# Altium integrated library Capacitor - Aluminium TH.IntLib: 4591 symbols (part 37 of 68)
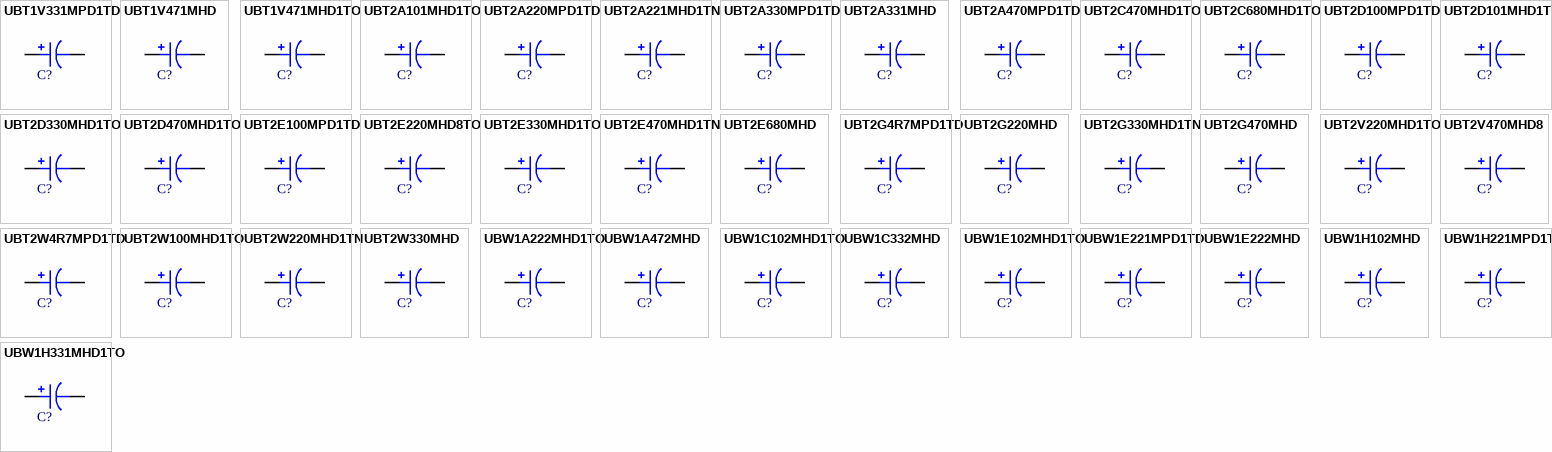
[diagram p150: symbols UBT1V331MPD1TD to UBW1H331MHD1TO]

## UBT2E680MHD
designator C?, comment 68uF  (value not drawn)
CAP ALUM 68UF 20% 250V RADIAL; Part Number: UBT2E680MHD; Manufacturer: Nichicon; TemperatureRange: -40C ~ 125C; Type: Polar; Ripple Current: 292mA @ 120Hz; Value: 68uF; PartId: 27225; Supplier 1: Digi-Key; Supplier Part Number 1: 493-13037-ND; ComponentLink1Description: Datasheet; ComponentLink1URL: http://nichicon-us.com/english/products/pdfs/e-ubt.pdf; ComponentLink2Description: Digi-Key Listing; ComponentLink2URL: https://www.digikey.com/product-detail/en/nichicon/UBT2E680MHD/493-13037-ND/2597460; Tolerance: 20%; Voltage: 250V; Price: 2.36; Device Package: Radial, Can, 16mm
footprint CAP AL TH D16 L7.5 H33.5
pins: 1, 2

## UBT2G4R7MPD1TD
designator C?, comment 4.7uF  (value not drawn)
CAP ALUM 4.7UF 20% 400V RADIAL; Part Number: UBT2G4R7MPD1TD; Manufacturer: Nichicon; TemperatureRange: -25C ~ 125C; Type: Polar; Ripple Current: 53mA @ 120Hz; Value: 4.7uF; PartId: 25814; Supplier 1: Digi-Key; Supplier Part Number 1: 493-4521-3-ND; ComponentLink1Description: Datasheet; ComponentLink1URL: http://nichicon-us.com/english/products/pdfs/e-ubt.pdf; ComponentLink2Description: Digi-Key Listing; ComponentLink2URL: https://www.digikey.com/product-detail/en/nichicon/UBT2G4R7MPD1TD/493-4521-3-ND/2649109; Tolerance: 20%; Voltage: 400V; Price: 0.3328; Device Package: Radial, Can, 10mm
footprint CAP AL TH D10 L5 H22
pins: 1, 2

## UBT2G220MHD
designator C?, comment 22uF  (value not drawn)
CAP ALUM 22UF 20% 400V RADIAL; Part Number: UBT2G220MHD; Manufacturer: Nichicon; TemperatureRange: -25C ~ 125C; Type: Polar; Ripple Current: 142mA @ 120Hz; Value: 22uF; PartId: 24383; Supplier 1: Digi-Key; Supplier Part Number 1: 493-13038-ND; ComponentLink1Description: Datasheet; ComponentLink1URL: http://nichicon-us.com/english/products/pdfs/e-ubt.pdf; ComponentLink2Description: Digi-Key Listing; ComponentLink2URL: https://www.digikey.com/product-detail/en/nichicon/UBT2G220MHD/493-13038-ND/2597462; Tolerance: 20%; Voltage: 400V; Price: 1.7; Device Package: Radial, Can, 12.5mm
footprint CAP AL TH D12.5 L5 H35.5
pins: 1, 2

## UBT2G330MHD1TN
designator C?, comment 33uF  (value not drawn)
CAP ALUM 33UF 20% 400V RADIAL; Part Number: UBT2G330MHD1TN; Manufacturer: Nichicon; TemperatureRange: -25C ~ 125C; Type: Polar; Ripple Current: 189mA @ 120Hz; Value: 33uF; PartId: 26865; Supplier 1: Digi-Key; Supplier Part Number 1: 493-13132-3-ND; ComponentLink1Description: Datasheet; ComponentLink1URL: http://nichicon-us.com/english/products/pdfs/e-ubt.pdf; ComponentLink2Description: Digi-Key Listing; ComponentLink2URL: https://www.digikey.com/product-detail/en/nichicon/UBT2G330MHD1TN/493-13132-3-ND/4332763; Tolerance: 20%; Voltage: 400V; Price: 1.2674; Device Package: Radial, Can, 16mm
footprint CAP AL TH D16 L7.5 H27
pins: 1, 2

## UBT2G470MHD
designator C?, comment 47uF  (value not drawn)
CAP ALUM 47UF 20% 400V RADIAL; Part Number: UBT2G470MHD; Manufacturer: Nichicon; TemperatureRange: -25C ~ 125C; Type: Polar; Ripple Current: 243mA @ 120Hz; Value: 47uF; PartId: 27246; Supplier 1: Digi-Key; Supplier Part Number 1: 493-4482-ND; ComponentLink1Description: Datasheet; ComponentLink1URL: http://nichicon-us.com/english/products/pdfs/e-ubt.pdf; ComponentLink2Description: Digi-Key Listing; ComponentLink2URL: https://www.digikey.com/product-detail/en/nichicon/UBT2G470MHD/493-4482-ND/2597464; Tolerance: 20%; Voltage: 400V; Price: 2.63; Device Package: Radial, Can, 16mm
footprint CAP AL TH D16 L7.5 H33.5
pins: 1, 2

## UBT2V220MHD1TO
designator C?, comment 22uF  (value not drawn)
CAP ALUM 22UF 20% 350V RADIAL; Part Number: UBT2V220MHD1TO; Manufacturer: Nichicon; TemperatureRange: -25C ~ 125C; Type: Polar; Ripple Current: 139mA @ 120Hz; Value: 22uF; PartId: 23848; Supplier 1: Digi-Key; Supplier Part Number 1: 493-4520-3-ND; ComponentLink1Description: Datasheet; ComponentLink1URL: http://nichicon-us.com/english/products/pdfs/e-ubt.pdf; ComponentLink2Description: Digi-Key Listing; ComponentLink2URL: https://www.digikey.com/product-detail/en/nichicon/UBT2V220MHD1TO/493-4520-3-ND/2649108; Tolerance: 20%; Voltage: 350V; Price: 0.599; Device Package: Radial, Can, 12.5mm
footprint CAP AL TH D12.5 L5 H27
pins: 1, 2

## UBT2V470MHD8
designator C?, comment 47uF  (value not drawn)
CAP ALUM 47UF 20% 350V RADIAL; Part Number: UBT2V470MHD8; Manufacturer: Nichicon; TemperatureRange: -25C ~ 125C; Type: Polar; Ripple Current: 243mA @ 120Hz; Value: 47uF; PartId: 27247; Supplier 1: Digi-Key; Supplier Part Number 1: 493-13039-ND; ComponentLink1Description: Datasheet; ComponentLink1URL: http://nichicon-us.com/english/products/pdfs/e-ubt.pdf; ComponentLink2Description: Digi-Key Listing; ComponentLink2URL: https://www.digikey.com/product-detail/en/nichicon/UBT2V470MHD8/493-13039-ND/2597469; Tolerance: 20%; Voltage: 350V; Price: 2.63; Device Package: Radial, Can, 16mm
footprint CAP AL TH D16 L7.5 H33.5
pins: 1, 2

## UBT2W4R7MPD1TD
designator C?, comment 4.7uF  (value not drawn)
CAP ALUM 4.7UF 20% 450V RADIAL; Part Number: UBT2W4R7MPD1TD; Manufacturer: Nichicon; TemperatureRange: -25C ~ 125C; Type: Polar; Ripple Current: 58mA @ 120Hz; Value: 4.7uF; PartId: 26038; Supplier 1: Digi-Key; Supplier Part Number 1: 493-4522-3-ND; ComponentLink1Description: Datasheet; ComponentLink1URL: http://nichicon-us.com/english/products/pdfs/e-ubt.pdf; ComponentLink2Description: Digi-Key Listing; ComponentLink2URL: https://www.digikey.com/product-detail/en/nichicon/UBT2W4R7MPD1TD/493-4522-3-ND/2649110; Tolerance: 20%; Voltage: 450V; Price: 0.4889; Device Package: Radial, Can, 10mm
footprint CAP AL TH D10 L5 H30
pins: 1, 2

## UBT2W100MHD1TO
designator C?, comment 10uF  (value not drawn)
CAP ALUM 10UF 20% 450V RADIAL; Part Number: UBT2W100MHD1TO; Manufacturer: Nichicon; TemperatureRange: -25C ~ 125C; Type: Polar; Ripple Current: 86mA @ 120Hz; Value: 10uF; PartId: 23210; Supplier 1: Digi-Key; Supplier Part Number 1: 493-4523-3-ND; ComponentLink1Description: Datasheet; ComponentLink1URL: http://nichicon-us.com/english/products/pdfs/e-ubt.pdf; ComponentLink2Description: Digi-Key Listing; ComponentLink2URL: https://www.digikey.com/product-detail/en/nichicon/UBT2W100MHD1TO/493-4523-3-ND/2649111; Tolerance: 20%; Voltage: 450V; Price: 0.6211; Device Package: Radial, Can, 12.5mm
footprint CAP AL TH D12.5 L5 H22
pins: 1, 2

## UBT2W220MHD1TN
designator C?, comment 22uF  (value not drawn)
CAP ALUM 22UF 20% 450V RADIAL; Part Number: UBT2W220MHD1TN; Manufacturer: Nichicon; TemperatureRange: -25C ~ 125C; Type: Polar; Ripple Current: 154mA @ 120Hz; Value: 22uF; PartId: 26896; Supplier 1: Digi-Key; Supplier Part Number 1: 493-13136-3-ND; ComponentLink1Description: Datasheet; ComponentLink1URL: http://nichicon-us.com/english/products/pdfs/e-ubt.pdf; ComponentLink2Description: Digi-Key Listing; ComponentLink2URL: https://www.digikey.com/product-detail/en/nichicon/UBT2W220MHD1TN/493-13136-3-ND/4332767; Tolerance: 20%; Voltage: 450V; Price: 1.4626; Device Package: Radial, Can, 16mm
footprint CAP AL TH D16 L7.5 H27
pins: 1, 2

## UBT2W330MHD
designator C?, comment 33uF  (value not drawn)
CAP ALUM 33UF 20% 450V RADIAL; Part Number: UBT2W330MHD; Manufacturer: Nichicon; TemperatureRange: -25C ~ 125C; Type: Polar; Ripple Current: 203mA @ 120Hz; Value: 33uF; PartId: 27296; Supplier 1: Digi-Key; Supplier Part Number 1: 493-4483-ND; ComponentLink1Description: Datasheet; ComponentLink1URL: http://nichicon-us.com/english/products/pdfs/e-ubt.pdf; ComponentLink2Description: Digi-Key Listing; ComponentLink2URL: https://www.digikey.com/product-detail/en/nichicon/UBT2W330MHD/493-4483-ND/2597473; Tolerance: 20%; Voltage: 450V; Price: 3.33; Device Package: Radial, Can, 16mm
footprint CAP AL TH D16 L7.5 H33.5
pins: 1, 2

## UBW1A222MHD1TO
designator C?, comment 2200uF  (value not drawn)
CAP ALUM 2200UF 20% 10V RADIAL; Part Number: UBW1A222MHD1TO; Manufacturer: Nichicon; TemperatureRange: -55C ~ 135C; Type: Polar; Ripple Current: 1.75A; Impedance: 33 mOhm; Value: 2200uF; PartId: 24197; Supplier 1: Digi-Key; Supplier Part Number 1: 493-13139-1-ND; ComponentLink1Description: Datasheet; ComponentLink1URL: http://nichicon-us.com/english/products/pdfs/e-ubw.pdf; ComponentLink2Description: Digi-Key Listing; ComponentLink2URL: https://www.digikey.com/product-detail/en/nichicon/UBW1A222MHD1TO/493-13139-1-ND/4333149; Tolerance: 20%; Voltage: 10V; Price: 2.47; Device Package: Radial, Can, 12.5mm
footprint CAP AL TH D12.5 L5 H27
pins: 1, 2

## UBW1A472MHD
designator C?, comment 4700uF  (value not drawn)
CAP ALUM 4700UF 20% 10V RADIAL; Part Number: UBW1A472MHD; Manufacturer: Nichicon; TemperatureRange: -55C ~ 135C; Type: Polar; Ripple Current: 1.816A @ 120Hz; Impedance: 20 mOhm; Value: 4700uF; PartId: 27294; Supplier 1: Digi-Key; Supplier Part Number 1: 493-13040-ND; ComponentLink1Description: Datasheet; ComponentLink1URL: http://nichicon-us.com/english/products/pdfs/e-ubw.pdf; ComponentLink2Description: Digi-Key Listing; ComponentLink2URL: https://www.digikey.com/product-detail/en/nichicon/UBW1A472MHD/493-13040-ND/2597481; Tolerance: 20%; Voltage: 10V; Price: 3.32; Device Package: Radial, Can, 16mm
footprint CAP AL TH D16 L7.5 H33.5
pins: 1, 2

## UBW1C102MHD1TO
designator C?, comment 1000uF  (value not drawn)
CAP ALUM 1000UF 20% 16V RADIAL; Part Number: UBW1C102MHD1TO; Manufacturer: Nichicon; TemperatureRange: -55C ~ 135C; Type: Polar; Ripple Current: 1.49A; Impedance: 42 mOhm; Value: 1000uF; PartId: 23530; Supplier 1: Digi-Key; Supplier Part Number 1: 493-13144-1-ND; ComponentLink1Description: Datasheet; ComponentLink1URL: http://nichicon-us.com/english/products/pdfs/e-ubw.pdf; ComponentLink2Description: Digi-Key Listing; ComponentLink2URL: https://www.digikey.com/product-detail/en/nichicon/UBW1C102MHD1TO/493-13144-1-ND/4333154; Tolerance: 20%; Voltage: 16V; Price: 1.91; Device Package: Radial, Can, 12.5mm
footprint CAP AL TH D12.5 L5 H22
pins: 1, 2

## UBW1C332MHD
designator C?, comment 3300uF  (value not drawn)
CAP ALUM 3300UF 20% 16V RADIAL; Part Number: UBW1C332MHD; Manufacturer: Nichicon; TemperatureRange: -55C ~ 135C; Type: Polar; Ripple Current: 1.816A @ 120Hz; Impedance: 20 mOhm; Value: 3300uF; PartId: 27293; Supplier 1: Digi-Key; Supplier Part Number 1: 493-13041-ND; ComponentLink1Description: Datasheet; ComponentLink1URL: http://nichicon-us.com/english/products/pdfs/e-ubw.pdf; ComponentLink2Description: Digi-Key Listing; ComponentLink2URL: https://www.digikey.com/product-detail/en/nichicon/UBW1C332MHD/493-13041-ND/2597487; Tolerance: 20%; Voltage: 16V; Price: 3.32; Device Package: Radial, Can, 16mm
footprint CAP AL TH D16 L7.5 H33.5
pins: 1, 2

## UBW1E102MHD1TO
designator C?, comment 1000uF  (value not drawn)
CAP ALUM 1000UF 20% 25V RADIAL; Part Number: UBW1E102MHD1TO; Manufacturer: Nichicon; TemperatureRange: -55C ~ 135C; Type: Polar; Ripple Current: 1.75A; Impedance: 33 mOhm; Value: 1000uF; PartId: 24199; Supplier 1: Digi-Key; Supplier Part Number 1: 493-13150-1-ND; ComponentLink1Description: Datasheet; ComponentLink1URL: http://nichicon-us.com/english/products/pdfs/e-ubw.pdf; ComponentLink2Description: Digi-Key Listing; ComponentLink2URL: https://www.digikey.com/product-detail/en/nichicon/UBW1E102MHD1TO/493-13150-1-ND/4333160; Tolerance: 20%; Voltage: 25V; Price: 2.47; Device Package: Radial, Can, 12.5mm
footprint CAP AL TH D12.5 L5 H27
pins: 1, 2

## UBW1E221MPD1TD
designator C?, comment 220uF  (value not drawn)
CAP ALUM 220UF 20% 25V RADIAL; Part Number: UBW1E221MPD1TD; Manufacturer: Nichicon; TemperatureRange: -55C ~ 135C; Type: Polar; Ripple Current: 340mA @ 120Hz; Impedance: 100 mOhm; Value: 220uF; PartId: 24793; Supplier 1: Digi-Key; Supplier Part Number 1: 493-13151-3-ND; ComponentLink1Description: Datasheet; ComponentLink1URL: http://nichicon-us.com/english/products/pdfs/e-ubw.pdf; ComponentLink2Description: Digi-Key Listing; ComponentLink2URL: https://www.digikey.com/product-detail/en/nichicon/UBW1E221MPD1TD/493-13151-3-ND/4332782; Tolerance: 20%; Voltage: 25V; Price: 0.445; Device Package: Radial, Can, 10mm
footprint CAP AL TH D10 L5 H14.5
pins: 1, 2

## UBW1E222MHD
designator C?, comment 2200uF  (value not drawn)
CAP ALUM 2200UF 20% 25V RADIAL; Part Number: UBW1E222MHD; Manufacturer: Nichicon; TemperatureRange: -55C ~ 135C; Type: Polar; Ripple Current: 1.816A @ 120Hz; Impedance: 20 mOhm; Value: 2200uF; PartId: 27289; Supplier 1: Digi-Key; Supplier Part Number 1: 493-13042-ND; ComponentLink1Description: Datasheet; ComponentLink1URL: http://nichicon-us.com/english/products/pdfs/e-ubw.pdf; ComponentLink2Description: Digi-Key Listing; ComponentLink2URL: https://www.digikey.com/product-detail/en/nichicon/UBW1E222MHD/493-13042-ND/2597492; Tolerance: 20%; Voltage: 25V; Price: 3.32; Device Package: Radial, Can, 16mm
footprint CAP AL TH D16 L7.5 H33.5
pins: 1, 2

## UBW1H102MHD
designator C?, comment 1000uF  (value not drawn)
CAP ALUM 1000UF 20% 50V RADIAL; Part Number: UBW1H102MHD; Manufacturer: Nichicon; TemperatureRange: -55C ~ 135C; Type: Polar; Ripple Current: 1.628A @ 120Hz; Impedance: 31 mOhm; Value: 1000uF; PartId: 27291; Supplier 1: Digi-Key; Supplier Part Number 1: 493-13043-ND; ComponentLink1Description: Datasheet; ComponentLink1URL: http://nichicon-us.com/english/products/pdfs/e-ubw.pdf; ComponentLink2Description: Digi-Key Listing; ComponentLink2URL: https://www.digikey.com/product-detail/en/nichicon/UBW1H102MHD/493-13043-ND/2597498; Tolerance: 20%; Voltage: 50V; Price: 3.32; Device Package: Radial, Can, 16mm
footprint CAP AL TH D16 L7.5 H33.5
pins: 1, 2

## UBW1H221MPD1TD
designator C?, comment 220uF  (value not drawn)
CAP ALUM 220UF 20% 50V RADIAL; Part Number: UBW1H221MPD1TD; Manufacturer: Nichicon; TemperatureRange: -55C ~ 135C; Type: Polar; Ripple Current: 465mA @ 120Hz; Impedance: 98 mOhm; Value: 220uF; PartId: 25910; Supplier 1: Digi-Key; Supplier Part Number 1: 493-13158-3-ND; ComponentLink1Description: Datasheet; ComponentLink1URL: http://nichicon-us.com/english/products/pdfs/e-ubw.pdf; ComponentLink2Description: Digi-Key Listing; ComponentLink2URL: https://www.digikey.com/product-detail/en/nichicon/UBW1H221MPD1TD/493-13158-3-ND/4332789; Tolerance: 20%; Voltage: 50V; Price: 0.6983; Device Package: Radial, Can, 10mm
footprint CAP AL TH D10 L5 H22
pins: 1, 2

## UBW1H331MHD1TO
designator C?, comment 330uF  (value not drawn)
CAP ALUM 330UF 20% 50V RADIAL; Part Number: UBW1H331MHD1TO; Manufacturer: Nichicon; TemperatureRange: -55C ~ 135C; Type: Polar; Ripple Current: 1.33A; Impedance: 70 mOhm; Value: 330uF; PartId: 23531; Supplier 1: Digi-Key; Supplier Part Number 1: 493-13161-1-ND; ComponentLink1Description: Datasheet; ComponentLink1URL: http://nichicon-us.com/english/products/pdfs/e-ubw.pdf; ComponentLink2Description: Digi-Key Listing; ComponentLink2URL: https://www.digikey.com/product-detail/en/nichicon/UBW1H331MHD1TO/493-13161-1-ND/4333171; Tolerance: 20%; Voltage: 50V; Price: 1.97; Device Package: Radial, Can, 12.5mm
footprint CAP AL TH D12.5 L5 H22
pins: 1, 2

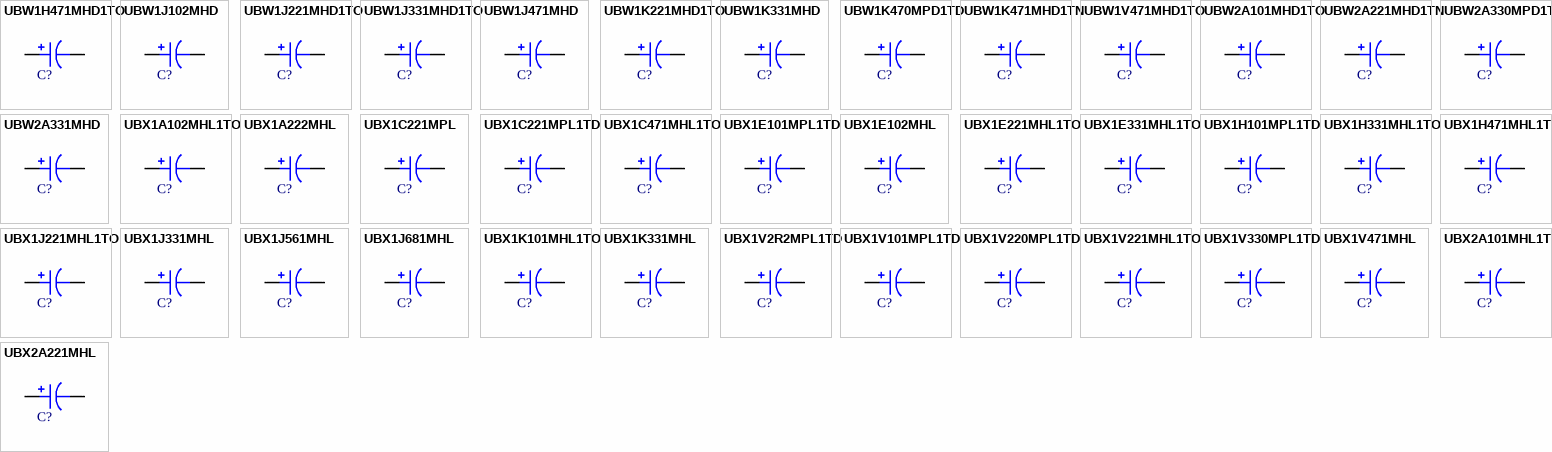
[diagram p60: symbols UBW1H471MHD1TO to UBX2A221MHL]

## UBW1H471MHD1TO
designator C?, comment 470uF  (value not drawn)
CAP ALUM 470UF 20% 50V RADIAL; Part Number: UBW1H471MHD1TO; Manufacturer: Nichicon; TemperatureRange: -55C ~ 135C; Type: Polar; Ripple Current: 825mA @ 120Hz; Impedance: 55 mOhm; Value: 470uF; PartId: 23986; Supplier 1: Digi-Key; Supplier Part Number 1: 493-13164-3-ND; ComponentLink1Description: Datasheet; ComponentLink1URL: http://nichicon-us.com/english/products/pdfs/e-ubw.pdf; ComponentLink2Description: Digi-Key Listing; ComponentLink2URL: https://www.digikey.com/product-detail/en/nichicon/UBW1H471MHD1TO/493-13164-3-ND/4332795; Tolerance: 20%; Voltage: 50V; Price: 1.0363; Device Package: Radial, Can, 12.5mm
footprint CAP AL TH D12.5 L5 H27
pins: 1, 2

## UBW1J102MHD
designator C?, comment 1000uF  (value not drawn)
CAP ALUM 1000UF 20% 63V RADIAL; Part Number: UBW1J102MHD; Manufacturer: Nichicon; TemperatureRange: -55C ~ 135C; Type: Polar; Ripple Current: 1.273A @ 120Hz; Impedance: 55 mOhm; Value: 1000uF; PartId: 27290; Supplier 1: Digi-Key; Supplier Part Number 1: 493-13044-ND; ComponentLink1Description: Datasheet; ComponentLink1URL: http://nichicon-us.com/english/products/pdfs/e-ubw.pdf; ComponentLink2Description: Digi-Key Listing; ComponentLink2URL: https://www.digikey.com/product-detail/en/nichicon/UBW1J102MHD/493-13044-ND/2597506; Tolerance: 20%; Voltage: 63V; Price: 3.32; Device Package: Radial, Can, 16mm
footprint CAP AL TH D16 L7.5 H33.5
pins: 1, 2

## UBW1J221MHD1TO
designator C?, comment 220uF  (value not drawn)
CAP ALUM 220UF 20% 63V RADIAL; Part Number: UBW1J221MHD1TO; Manufacturer: Nichicon; TemperatureRange: -55C ~ 135C; Type: Polar; Ripple Current: 525mA @ 120Hz; Impedance: 160 mOhm; Value: 220uF; PartId: 23300; Supplier 1: Digi-Key; Supplier Part Number 1: 493-13168-3-ND; ComponentLink1Description: Datasheet; ComponentLink1URL: http://nichicon-us.com/english/products/pdfs/e-ubw.pdf; ComponentLink2Description: Digi-Key Listing; ComponentLink2URL: https://www.digikey.com/product-detail/en/nichicon/UBW1J221MHD1TO/493-13168-3-ND/4332799; Tolerance: 20%; Voltage: 63V; Price: 0.8017; Device Package: Radial, Can, 12.5mm
footprint CAP AL TH D12.5 L5 H22
pins: 1, 2

## UBW1J331MHD1TO
designator C?, comment 330uF  (value not drawn)
CAP ALUM 330UF 20% 63V RADIAL; Part Number: UBW1J331MHD1TO; Manufacturer: Nichicon; TemperatureRange: -55C ~ 135C; Type: Polar; Ripple Current: 1.29A; Impedance: 120 mOhm; Value: 330uF; PartId: 24198; Supplier 1: Digi-Key; Supplier Part Number 1: 493-13170-1-ND; ComponentLink1Description: Datasheet; ComponentLink1URL: http://nichicon-us.com/english/products/pdfs/e-ubw.pdf; ComponentLink2Description: Digi-Key Listing; ComponentLink2URL: https://www.digikey.com/product-detail/en/nichicon/UBW1J331MHD1TO/493-13170-1-ND/4333180; Tolerance: 20%; Voltage: 63V; Price: 2.47; Device Package: Radial, Can, 12.5mm
footprint CAP AL TH D12.5 L5 H27
pins: 1, 2

## UBW1J471MHD
designator C?, comment 470uF  (value not drawn)
CAP ALUM 470UF 20% 63V RADIAL; Part Number: UBW1J471MHD; Manufacturer: Nichicon; TemperatureRange: -55C ~ 135C; Type: Polar; Ripple Current: 730mA @ 120Hz; Impedance: 97 mOhm; Value: 470uF; PartId: 24425; Supplier 1: Digi-Key; Supplier Part Number 1: 493-13045-ND; ComponentLink1Description: Datasheet; ComponentLink1URL: http://nichicon-us.com/english/products/pdfs/e-ubw.pdf; ComponentLink2Description: Digi-Key Listing; ComponentLink2URL: https://www.digikey.com/product-detail/en/nichicon/UBW1J471MHD/493-13045-ND/2597512; Tolerance: 20%; Voltage: 63V; Price: 2.39; Device Package: Radial, Can, 12.5mm
footprint CAP AL TH D12.5 L5 H35.5
pins: 1, 2

## UBW1K221MHD1TO
designator C?, comment 220uF  (value not drawn)
CAP ALUM 220UF 20% 80V RADIAL; Part Number: UBW1K221MHD1TO; Manufacturer: Nichicon; TemperatureRange: -55C ~ 135C; Type: Polar; Ripple Current: 620mA @ 120Hz; Impedance: 180 mOhm; Value: 220uF; PartId: 23987; Supplier 1: Digi-Key; Supplier Part Number 1: 493-13174-3-ND; ComponentLink1Description: Datasheet; ComponentLink1URL: http://nichicon-us.com/english/products/pdfs/e-ubw.pdf; ComponentLink2Description: Digi-Key Listing; ComponentLink2URL: https://www.digikey.com/product-detail/en/nichicon/UBW1K221MHD1TO/493-13174-3-ND/4332805; Tolerance: 20%; Voltage: 80V; Price: 1.0363; Device Package: Radial, Can, 12.5mm
footprint CAP AL TH D12.5 L5 H27
pins: 1, 2

## UBW1K331MHD
designator C?, comment 330uF  (value not drawn)
CAP ALUM 330UF 20% 80V RADIAL; Part Number: UBW1K331MHD; Manufacturer: Nichicon; TemperatureRange: -55C ~ 135C; Type: Polar; Ripple Current: 695mA @ 120Hz; Impedance: 160 mOhm; Value: 330uF; PartId: 24424; Supplier 1: Digi-Key; Supplier Part Number 1: 493-13046-ND; ComponentLink1Description: Datasheet; ComponentLink1URL: http://nichicon-us.com/english/products/pdfs/e-ubw.pdf; ComponentLink2Description: Digi-Key Listing; ComponentLink2URL: https://www.digikey.com/product-detail/en/nichicon/UBW1K331MHD/493-13046-ND/2597517; Tolerance: 20%; Voltage: 80V; Price: 2.39; Device Package: Radial, Can, 12.5mm
footprint CAP AL TH D12.5 L5 H35.5
pins: 1, 2

## UBW1K470MPD1TD
designator C?, comment 47uF  (value not drawn)
CAP ALUM 47UF 20% 80V RADIAL; Part Number: UBW1K470MPD1TD; Manufacturer: Nichicon; TemperatureRange: -55C ~ 135C; Type: Polar; Ripple Current: 240mA  @ 120Hz; Impedance: 800 mOhm; Value: 47uF; PartId: 24774; Supplier 1: Digi-Key; Supplier Part Number 1: 493-13176-3-ND; ComponentLink1Description: Datasheet; ComponentLink1URL: http://nichicon-us.com/english/products/pdfs/e-ubw.pdf; ComponentLink2Description: Digi-Key Listing; ComponentLink2URL: https://www.digikey.com/product-detail/en/nichicon/UBW1K470MPD1TD/493-13176-3-ND/4332807; Tolerance: 20%; Voltage: 80V; Price: 0.432; Device Package: Radial, Can, 10mm
footprint CAP AL TH D10 L5 H14.5
pins: 1, 2

## UBW1K471MHD1TN
designator C?, comment 470uF  (value not drawn)
CAP ALUM 470UF 20% 80V RADIAL; Part Number: UBW1K471MHD1TN; Manufacturer: Nichicon; TemperatureRange: -55C ~ 135C; Type: Polar; Ripple Current: 750mA @ 120Hz; Impedance: 110 mOhm; Value: 470uF; PartId: 26911; Supplier 1: Digi-Key; Supplier Part Number 1: 493-13177-3-ND; ComponentLink1Description: Datasheet; ComponentLink1URL: http://nichicon-us.com/english/products/pdfs/e-ubw.pdf; ComponentLink2Description: Digi-Key Listing; ComponentLink2URL: https://www.digikey.com/product-detail/en/nichicon/UBW1K471MHD1TN/493-13177-3-ND/4332808; Tolerance: 20%; Voltage: 80V; Price: 1.6317; Device Package: Radial, Can, 16mm
footprint CAP AL TH D16 L7.5 H27
pins: 1, 2

## UBW1V471MHD1TO
designator C?, comment 470uF  (value not drawn)
CAP ALUM 470UF 20% 35V RADIAL; Part Number: UBW1V471MHD1TO; Manufacturer: Nichicon; TemperatureRange: -55C ~ 135C; Type: Polar; Ripple Current: 665mA @ 120Hz; Impedance: 58 mOhm; Value: 470uF; PartId: 23301; Supplier 1: Digi-Key; Supplier Part Number 1: 493-13182-3-ND; ComponentLink1Description: Datasheet; ComponentLink1URL: http://nichicon-us.com/english/products/pdfs/e-ubw.pdf; ComponentLink2Description: Digi-Key Listing; ComponentLink2URL: https://www.digikey.com/product-detail/en/nichicon/UBW1V471MHD1TO/493-13182-3-ND/4332813; Tolerance: 20%; Voltage: 35V; Price: 0.8017; Device Package: Radial, Can, 12.5mm
footprint CAP AL TH D12.5 L5 H22
pins: 1, 2

## UBW2A101MHD1TO
designator C?, comment 100uF  (value not drawn)
CAP ALUM 100UF 20% 100V RADIAL; Part Number: UBW2A101MHD1TO; Manufacturer: Nichicon; TemperatureRange: -55C ~ 135C; Type: Polar; Ripple Current: 495mA @ 120Hz; Impedance: 250 mOhm; Value: 100uF; PartId: 23302; Supplier 1: Digi-Key; Supplier Part Number 1: 493-13184-3-ND; ComponentLink1Description: Datasheet; ComponentLink1URL: http://nichicon-us.com/english/products/pdfs/e-ubw.pdf; ComponentLink2Description: Digi-Key Listing; ComponentLink2URL: https://www.digikey.com/product-detail/en/nichicon/UBW2A101MHD1TO/493-13184-3-ND/4332815; Tolerance: 20%; Voltage: 100V; Price: 0.8017; Device Package: Radial, Can, 12.5mm
footprint CAP AL TH D12.5 L5 H22
pins: 1, 2

## UBW2A221MHD1TN
designator C?, comment 220uF  (value not drawn)
CAP ALUM 220UF 20% 100V RADIAL; Part Number: UBW2A221MHD1TN; Manufacturer: Nichicon; TemperatureRange: -55C ~ 135C; Type: Polar; Ripple Current: 750mA @ 120Hz; Impedance: 110 mOhm; Value: 220uF; PartId: 26912; Supplier 1: Digi-Key; Supplier Part Number 1: 493-13186-3-ND; ComponentLink1Description: Datasheet; ComponentLink1URL: http://nichicon-us.com/english/products/pdfs/e-ubw.pdf; ComponentLink2Description: Digi-Key Listing; ComponentLink2URL: https://www.digikey.com/product-detail/en/nichicon/UBW2A221MHD1TN/493-13186-3-ND/4332817; Tolerance: 20%; Voltage: 100V; Price: 1.6317; Device Package: Radial, Can, 16mm
footprint CAP AL TH D16 L7.5 H27
pins: 1, 2

## UBW2A330MPD1TD
designator C?, comment 33uF  (value not drawn)
CAP ALUM 33UF 20% 100V RADIAL; Part Number: UBW2A330MPD1TD; Manufacturer: Nichicon; TemperatureRange: -55C ~ 135C; Type: Polar; Ripple Current: 240mA  @ 120Hz; Impedance: 800 mOhm; Value: 33uF; PartId: 24946; Supplier 1: Digi-Key; Supplier Part Number 1: 493-13187-3-ND; ComponentLink1Description: Datasheet; ComponentLink1URL: http://nichicon-us.com/english/products/pdfs/e-ubw.pdf; ComponentLink2Description: Digi-Key Listing; ComponentLink2URL: https://www.digikey.com/product-detail/en/nichicon/UBW2A330MPD1TD/493-13187-3-ND/4332818; Tolerance: 20%; Voltage: 100V; Price: 0.512; Device Package: Radial, Can, 10mm
footprint CAP AL TH D10 L5 H14.5
pins: 1, 2

## UBW2A331MHD
designator C?, comment 330uF  (value not drawn)
CAP ALUM 330UF 20% 100V RADIAL; Part Number: UBW2A331MHD; Manufacturer: Nichicon; TemperatureRange: -55C ~ 135C; Type: Polar; Ripple Current: 895mA @ 120Hz; Impedance: 79 mOhm; Value: 330uF; PartId: 27292; Supplier 1: Digi-Key; Supplier Part Number 1: 493-13087-ND; ComponentLink1Description: Datasheet; ComponentLink1URL: http://nichicon-us.com/english/products/pdfs/e-ubw.pdf; ComponentLink2Description: Digi-Key Listing; ComponentLink2URL: https://www.digikey.com/product-detail/en/nichicon/UBW2A331MHD/493-13087-ND/4332718; Tolerance: 20%; Voltage: 100V; Price: 3.32; Device Package: Radial, Can, 16mm
footprint CAP AL TH D16 L7.5 H33.5
pins: 1, 2

## UBX1A102MHL1TO
designator C?, comment 1000uF  (value not drawn)
CAP ALUM 1000UF 20% 10V RADIAL; Part Number: UBX1A102MHL1TO; Manufacturer: Nichicon; TemperatureRange: -55C ~ 150C; Type: Polar; Ripple Current: 600mA; Value: 1000uF; PartId: 23753; Supplier 1: Digi-Key; Supplier Part Number 1: 493-13190-1-ND; ComponentLink1Description: Datasheet; ComponentLink1URL: http://nichicon-us.com/english/products/pdfs/e-ubx.pdf; ComponentLink2Description: Digi-Key Listing; ComponentLink2URL: https://www.digikey.com/product-detail/en/nichicon/UBX1A102MHL1TO/493-13190-1-ND/4333200; Tolerance: 20%; Voltage: 10V; Price: 1.73; Device Package: Radial, Can, 12.5mm
footprint CAP AL TH D12.5 L5 H26.5
pins: 1, 2

## UBX1A222MHL
designator C?, comment 2200uF  (value not drawn)
CAP ALUM 2200UF 20% 10V RADIAL; Part Number: UBX1A222MHL; Manufacturer: Nichicon; TemperatureRange: -55C ~ 150C; Type: Polar; Ripple Current: 670mA @ 120Hz; Value: 2200uF; PartId: 27281; Supplier 1: Digi-Key; Supplier Part Number 1: 493-13047-ND; ComponentLink1Description: Datasheet; ComponentLink1URL: http://nichicon-us.com/english/products/pdfs/e-ubx.pdf; ComponentLink2Description: Digi-Key Listing; ComponentLink2URL: https://www.digikey.com/product-detail/en/nichicon/UBX1A222MHL/493-13047-ND/2597530; Tolerance: 20%; Voltage: 10V; Price: 3.2; Device Package: Radial, Can, 16mm
footprint CAP AL TH D16 L7.5 H33.5
pins: 1, 2

## UBX1C221MPL
designator C?, comment 220uF  (value not drawn)
CAP ALUM 220UF 20% 16V RADIAL; Part Number: UBX1C221MPL; Manufacturer: Nichicon; TemperatureRange: -55C ~ 150C; Type: Polar; Ripple Current: 150mA @ 120Hz; Value: 220uF; PartId: 25428; Supplier 1: Digi-Key; Supplier Part Number 1: 493-14362-ND; ComponentLink1Description: Datasheet; ComponentLink1URL: http://nichicon-us.com/english/products/pdfs/e-ubx.pdf; ComponentLink2Description: Digi-Key Listing; ComponentLink2URL: https://www.digikey.com/product-detail/en/nichicon/UBX1C221MPL/493-14362-ND/2597536; Tolerance: 20%; Voltage: 16V; Price: 1.19; Device Package: Radial, Can, 10mm
footprint CAP AL TH D10 L5 H17.5
pins: 1, 2

## UBX1C221MPL1TD
designator C?, comment 220uF  (value not drawn)
CAP ALUM 220UF 20% 16V RADIAL; Part Number: UBX1C221MPL1TD; Manufacturer: Nichicon; TemperatureRange: -55C ~ 150C; Type: Polar; Ripple Current: 150mA @ 120Hz; Value: 220uF; PartId: 25158; Supplier 1: Digi-Key; Supplier Part Number 1: 493-13194-3-ND; ComponentLink1Description: Datasheet; ComponentLink1URL: http://nichicon-us.com/english/products/pdfs/e-ubx.pdf; ComponentLink2Description: Digi-Key Listing; ComponentLink2URL: https://www.digikey.com/product-detail/en/nichicon/UBX1C221MPL1TD/493-13194-3-ND/4332825; Tolerance: 20%; Voltage: 16V; Price: 0.4323; Device Package: Radial, Can, 10mm
footprint CAP AL TH D10 L5 H17.5
pins: 1, 2

## UBX1C471MHL1TO
designator C?, comment 470uF  (value not drawn)
CAP ALUM 470UF 20% 16V RADIAL; Part Number: UBX1C471MHL1TO; Manufacturer: Nichicon; TemperatureRange: -55C ~ 150C; Type: Polar; Ripple Current: 600mA; Value: 470uF; PartId: 23074; Supplier 1: Digi-Key; Supplier Part Number 1: 493-13196-1-ND; ComponentLink1Description: Datasheet; ComponentLink1URL: http://nichicon-us.com/english/products/pdfs/e-ubx.pdf; ComponentLink2Description: Digi-Key Listing; ComponentLink2URL: https://www.digikey.com/product-detail/en/nichicon/UBX1C471MHL1TO/493-13196-1-ND/4333206; Tolerance: 20%; Voltage: 16V; Price: 0; Device Package: Radial, Can, 12.5mm
footprint CAP AL TH D12.5 L5 H21.5
pins: 1, 2

## UBX1E101MPL1TD
designator C?, comment 100uF  (value not drawn)
CAP ALUM 100UF 20% 25V RADIAL; Part Number: UBX1E101MPL1TD; Manufacturer: Nichicon; TemperatureRange: -55C ~ 150C; Type: Polar; Ripple Current: 125mA @ 120Hz; Value: 100uF; PartId: 24754; Supplier 1: Digi-Key; Supplier Part Number 1: 493-13197-3-ND; ComponentLink1Description: Datasheet; ComponentLink1URL: http://nichicon-us.com/english/products/pdfs/e-ubx.pdf; ComponentLink2Description: Digi-Key Listing; ComponentLink2URL: https://www.digikey.com/product-detail/en/nichicon/UBX1E101MPL1TD/493-13197-3-ND/4332828; Tolerance: 20%; Voltage: 25V; Price: 0.4244; Device Package: Radial, Can, 10mm
footprint CAP AL TH D10 L5 H14.5
pins: 1, 2

## UBX1E102MHL
designator C?, comment 1000uF  (value not drawn)
CAP ALUM 1000UF 20% 25V RADIAL; Part Number: UBX1E102MHL; Manufacturer: Nichicon; TemperatureRange: -55C ~ 150C; Type: Polar; Ripple Current: 670mA @ 120Hz; Value: 1000uF; PartId: 27286; Supplier 1: Digi-Key; Supplier Part Number 1: 493-13052-ND; ComponentLink1Description: Datasheet; ComponentLink1URL: http://nichicon-us.com/english/products/pdfs/e-ubx.pdf; ComponentLink2Description: Digi-Key Listing; ComponentLink2URL: https://www.digikey.com/product-detail/en/nichicon/UBX1E102MHL/493-13052-ND/2597542; Tolerance: 20%; Voltage: 25V; Price: 3.23; Device Package: Radial, Can, 16mm
footprint CAP AL TH D16 L7.5 H33.5
pins: 1, 2

## UBX1E221MHL1TO
designator C?, comment 220uF  (value not drawn)
CAP ALUM 220UF 20% 25V RADIAL; Part Number: UBX1E221MHL1TO; Manufacturer: Nichicon; TemperatureRange: -55C ~ 150C; Type: Polar; Ripple Current: 500mA; Value: 220uF; PartId: 23069; Supplier 1: Digi-Key; Supplier Part Number 1: 493-13198-1-ND; ComponentLink1Description: Datasheet; ComponentLink1URL: http://nichicon-us.com/english/products/pdfs/e-ubx.pdf; ComponentLink2Description: Digi-Key Listing; ComponentLink2URL: https://www.digikey.com/product-detail/en/nichicon/UBX1E221MHL1TO/493-13198-1-ND/4333208; Tolerance: 20%; Voltage: 25V; Price: 0; Device Package: Radial, Can, 12.5mm
footprint CAP AL TH D12.5 L5 H21.5
pins: 1, 2

## UBX1E331MHL1TO
designator C?, comment 330uF  (value not drawn)
CAP ALUM 330UF 20% 25V RADIAL; Part Number: UBX1E331MHL1TO; Manufacturer: Nichicon; TemperatureRange: -55C ~ 150C; Type: Polar; Ripple Current: 600mA; Value: 330uF; PartId: 23754; Supplier 1: Digi-Key; Supplier Part Number 1: 493-13199-1-ND; ComponentLink1Description: Datasheet; ComponentLink1URL: http://nichicon-us.com/english/products/pdfs/e-ubx.pdf; ComponentLink2Description: Digi-Key Listing; ComponentLink2URL: https://www.digikey.com/product-detail/en/nichicon/UBX1E331MHL1TO/493-13199-1-ND/4333209; Tolerance: 20%; Voltage: 25V; Price: 1.73; Device Package: Radial, Can, 12.5mm
footprint CAP AL TH D12.5 L5 H26.5
pins: 1, 2

## UBX1H101MPL1TD
designator C?, comment 100uF  (value not drawn)
CAP ALUM 100UF 20% 50V RADIAL; Part Number: UBX1H101MPL1TD; Manufacturer: Nichicon; TemperatureRange: -55C ~ 150C; Type: Polar; Ripple Current: 190mA @ 120Hz; Value: 100uF; PartId: 24917; Supplier 1: Digi-Key; Supplier Part Number 1: 493-13201-3-ND; ComponentLink1Description: Datasheet; ComponentLink1URL: http://nichicon-us.com/english/products/pdfs/e-ubx.pdf; ComponentLink2Description: Digi-Key Listing; ComponentLink2URL: https://www.digikey.com/product-detail/en/nichicon/UBX1H101MPL1TD/493-13201-3-ND/4332832; Tolerance: 20%; Voltage: 50V; Price: 0.4955; Device Package: Radial, Can, 10mm
footprint CAP AL TH D10 L5 H14.5
pins: 1, 2

## UBX1H331MHL1TO
designator C?, comment 330uF  (value not drawn)
CAP ALUM 330UF 20% 50V RADIAL; Part Number: UBX1H331MHL1TO; Manufacturer: Nichicon; TemperatureRange: -55C ~ 150C; Type: Polar; Ripple Current: 770mA; Value: 330uF; PartId: 23084; Supplier 1: Digi-Key; Supplier Part Number 1: 493-13203-1-ND; ComponentLink1Description: Datasheet; ComponentLink1URL: http://nichicon-us.com/english/products/pdfs/e-ubx.pdf; ComponentLink2Description: Digi-Key Listing; ComponentLink2URL: https://www.digikey.com/product-detail/en/nichicon/UBX1H331MHL1TO/493-13203-1-ND/4333213; Tolerance: 20%; Voltage: 50V; Price: 0; Device Package: Radial, Can, 12.5mm
footprint CAP AL TH D12.5 L5 H21.5
pins: 1, 2

## UBX1H471MHL1TO
designator C?, comment 470uF  (value not drawn)
CAP ALUM 470UF 20% 50V RADIAL; Part Number: UBX1H471MHL1TO; Manufacturer: Nichicon; TemperatureRange: -55C ~ 150C; Type: Polar; Ripple Current: 960mA; Value: 470uF; PartId: 23783; Supplier 1: Digi-Key; Supplier Part Number 1: 493-13204-1-ND; ComponentLink1Description: Datasheet; ComponentLink1URL: http://nichicon-us.com/english/products/pdfs/e-ubx.pdf; ComponentLink2Description: Digi-Key Listing; ComponentLink2URL: https://www.digikey.com/product-detail/en/nichicon/UBX1H471MHL1TO/493-13204-1-ND/4333214; Tolerance: 20%; Voltage: 50V; Price: 3.25; Device Package: Radial, Can, 12.5mm
footprint CAP AL TH D12.5 L5 H26.5
pins: 1, 2

## UBX1J221MHL1TO
designator C?, comment 220uF  (value not drawn)
CAP ALUM 220UF 20% 63V RADIAL; Part Number: UBX1J221MHL1TO; Manufacturer: Nichicon; TemperatureRange: -55C ~ 150C; Type: Polar; Ripple Current: 520mA @ 120Hz; Value: 220uF; PartId: 23728; Supplier 1: Digi-Key; Supplier Part Number 1: 493-13207-3-ND; ComponentLink1Description: Datasheet; ComponentLink1URL: http://nichicon-us.com/english/products/pdfs/e-ubx.pdf; ComponentLink2Description: Digi-Key Listing; ComponentLink2URL: https://www.digikey.com/product-detail/en/nichicon/UBX1J221MHL1TO/493-13207-3-ND/4332838; Tolerance: 20%; Voltage: 63V; Price: 1.3638; Device Package: Radial, Can, 12.5mm
footprint CAP AL TH D12.5 L5 H26.5
pins: 1, 2

## UBX1J331MHL
designator C?, comment 330uF  (value not drawn)
CAP ALUM 330UF 20% 63V RADIAL; Part Number: UBX1J331MHL; Manufacturer: Nichicon; TemperatureRange: -55C ~ 150C; Type: Polar; Ripple Current: 585mA @ 120Hz; Value: 330uF; PartId: 24429; Supplier 1: Digi-Key; Supplier Part Number 1: 493-13055-ND; ComponentLink1Description: Datasheet; ComponentLink1URL: http://nichicon-us.com/english/products/pdfs/e-ubx.pdf; ComponentLink2Description: Digi-Key Listing; ComponentLink2URL: https://www.digikey.com/product-detail/en/nichicon/UBX1J331MHL/493-13055-ND/2597555; Tolerance: 20%; Voltage: 63V; Price: 3.04; Device Package: Radial, Can, 12.5mm
footprint CAP AL TH D12.5 L5 H35.5
pins: 1, 2

## UBX1J561MHL
designator C?, comment 560uF  (value not drawn)
CAP ALUM 560UF 20% 63V RADIAL; Part Number: UBX1J561MHL; Manufacturer: Nichicon; TemperatureRange: -55C ~ 150C; Type: Polar; Ripple Current: 760mA @ 120Hz; Value: 560uF; PartId: 27308; Supplier 1: Digi-Key; Supplier Part Number 1: 493-13056-ND; ComponentLink1Description: Datasheet; ComponentLink1URL: http://nichicon-us.com/english/products/pdfs/e-ubx.pdf; ComponentLink2Description: Digi-Key Listing; ComponentLink2URL: https://www.digikey.com/product-detail/en/nichicon/UBX1J561MHL/493-13056-ND/2597558; Tolerance: 20%; Voltage: 63V; Price: 4.24; Device Package: Radial, Can, 16mm
footprint CAP AL TH D16 L7.5 H33.5
pins: 1, 2

## UBX1J681MHL
designator C?, comment 680uF  (value not drawn)
CAP ALUM 680UF 20% 63V RADIAL; Part Number: UBX1J681MHL; Manufacturer: Nichicon; TemperatureRange: -55C ~ 150C; Type: Polar; Ripple Current: 760mA @ 120Hz; Value: 680uF; PartId: 27450; Supplier 1: Digi-Key; Supplier Part Number 1: 493-13057-ND; ComponentLink1Description: Datasheet; ComponentLink1URL: http://nichicon-us.com/english/products/pdfs/e-ubx.pdf; ComponentLink2Description: Digi-Key Listing; ComponentLink2URL: https://www.digikey.com/product-detail/en/nichicon/UBX1J681MHL/493-13057-ND/2597560; Tolerance: 20%; Voltage: 63V; Price: 4.45; Device Package: Radial, Can, 16mm
footprint CAP AL TH D16 L7.5 H37
pins: 1, 2

## UBX1K101MHL1TO
designator C?, comment 100uF  (value not drawn)
CAP ALUM 100UF 20% 80V RADIAL; Part Number: UBX1K101MHL1TO; Manufacturer: Nichicon; TemperatureRange: -55C ~ 150C; Type: Polar; Ripple Current: 820mA; Value: 100uF; PartId: 23086; Supplier 1: Digi-Key; Supplier Part Number 1: 493-13211-1-ND; ComponentLink1Description: Datasheet; ComponentLink1URL: http://nichicon-us.com/english/products/pdfs/e-ubx.pdf; ComponentLink2Description: Digi-Key Listing; ComponentLink2URL: https://www.digikey.com/product-detail/en/nichicon/UBX1K101MHL1TO/493-13211-1-ND/4333221; Tolerance: 20%; Voltage: 80V; Price: 0; Device Package: Radial, Can, 12.5mm
footprint CAP AL TH D12.5 L5 H21.5
pins: 1, 2

## UBX1K331MHL
designator C?, comment 330uF  (value not drawn)
CAP ALUM 330UF 20% 80V RADIAL; Part Number: UBX1K331MHL; Manufacturer: Nichicon; TemperatureRange: -55C ~ 150C; Type: Polar; Ripple Current: 740mA @ 120Hz; Value: 330uF; PartId: 27310; Supplier 1: Digi-Key; Supplier Part Number 1: 493-13058-ND; ComponentLink1Description: Datasheet; ComponentLink1URL: http://nichicon-us.com/english/products/pdfs/e-ubx.pdf; ComponentLink2Description: Digi-Key Listing; ComponentLink2URL: https://www.digikey.com/product-detail/en/nichicon/UBX1K331MHL/493-13058-ND/2597564; Tolerance: 20%; Voltage: 80V; Price: 4.32; Device Package: Radial, Can, 16mm
footprint CAP AL TH D16 L7.5 H33.5
pins: 1, 2

## UBX1V2R2MPL1TD
designator C?, comment 2.2uF  (value not drawn)
CAP ALUM 2.2UF 20% 35V RADIAL; Part Number: UBX1V2R2MPL1TD; Manufacturer: Nichicon; TemperatureRange: -55C ~ 150C; Type: Polar; Ripple Current: 25mA @ 120Hz; Value: 2.2uF; PartId: 24740; Supplier 1: Digi-Key; Supplier Part Number 1: 493-13222-3-ND; ComponentLink1Description: Datasheet; ComponentLink1URL: http://nichicon-us.com/english/products/pdfs/e-ubx.pdf; ComponentLink2Description: Digi-Key Listing; ComponentLink2URL: https://www.digikey.com/product-detail/en/nichicon/UBX1V2R2MPL1TD/493-13222-3-ND/4332853; Tolerance: 20%; Voltage: 35V; Price: 0.419; Device Package: Radial, Can, 10mm
footprint CAP AL TH D10 L5 H14.5
pins: 1, 2

## UBX1V101MPL1TD
designator C?, comment 100uF  (value not drawn)
CAP ALUM 100UF 20% 35V RADIAL; Part Number: UBX1V101MPL1TD; Manufacturer: Nichicon; TemperatureRange: -55C ~ 150C; Type: Polar; Ripple Current: 200mA @ 120Hz; Value: 100uF; PartId: 25502; Supplier 1: Digi-Key; Supplier Part Number 1: 493-13219-3-ND; ComponentLink1Description: Datasheet; ComponentLink1URL: http://nichicon-us.com/english/products/pdfs/e-ubx.pdf; ComponentLink2Description: Digi-Key Listing; ComponentLink2URL: https://www.digikey.com/product-detail/en/nichicon/UBX1V101MPL1TD/493-13219-3-ND/4332850; Tolerance: 20%; Voltage: 35V; Price: 0.4773; Device Package: Radial, Can, 10mm
footprint CAP AL TH D10 L5 H22
pins: 1, 2

## UBX1V220MPL1TD
designator C?, comment 22uF  (value not drawn)
CAP ALUM 22UF 20% 35V RADIAL; Part Number: UBX1V220MPL1TD; Manufacturer: Nichicon; TemperatureRange: -55C ~ 150C; Type: Polar; Ripple Current: 100mA @ 120Hz; Value: 22uF; PartId: 24741; Supplier 1: Digi-Key; Supplier Part Number 1: 493-13220-3-ND; ComponentLink1Description: Datasheet; ComponentLink1URL: http://nichicon-us.com/english/products/pdfs/e-ubx.pdf; ComponentLink2Description: Digi-Key Listing; ComponentLink2URL: https://www.digikey.com/product-detail/en/nichicon/UBX1V220MPL1TD/493-13220-3-ND/4332851; Tolerance: 20%; Voltage: 35V; Price: 0.419; Device Package: Radial, Can, 10mm
footprint CAP AL TH D10 L5 H14.5
pins: 1, 2

## UBX1V221MHL1TO
designator C?, comment 220uF  (value not drawn)
CAP ALUM 220UF 20% 35V RADIAL; Part Number: UBX1V221MHL1TO; Manufacturer: Nichicon; TemperatureRange: -55C ~ 150C; Type: Polar; Ripple Current: 600mA; Value: 220uF; PartId: 23761; Supplier 1: Digi-Key; Supplier Part Number 1: 493-13221-1-ND; ComponentLink1Description: Datasheet; ComponentLink1URL: http://nichicon-us.com/english/products/pdfs/e-ubx.pdf; ComponentLink2Description: Digi-Key Listing; ComponentLink2URL: https://www.digikey.com/product-detail/en/nichicon/UBX1V221MHL1TO/493-13221-1-ND/4333231; Tolerance: 20%; Voltage: 35V; Price: 1.77; Device Package: Radial, Can, 12.5mm
footprint CAP AL TH D12.5 L5 H26.5
pins: 1, 2

## UBX1V330MPL1TD
designator C?, comment 33uF  (value not drawn)
CAP ALUM 33UF 20% 35V RADIAL; Part Number: UBX1V330MPL1TD; Manufacturer: Nichicon; TemperatureRange: -55C ~ 150C; Type: Polar; Ripple Current: 112.5mA @ 120Hz; Value: 33uF; PartId: 24755; Supplier 1: Digi-Key; Supplier Part Number 1: 493-13223-3-ND; ComponentLink1Description: Datasheet; ComponentLink1URL: http://nichicon-us.com/english/products/pdfs/e-ubx.pdf; ComponentLink2Description: Digi-Key Listing; ComponentLink2URL: https://www.digikey.com/product-detail/en/nichicon/UBX1V330MPL1TD/493-13223-3-ND/4332854; Tolerance: 20%; Voltage: 35V; Price: 0.4244; Device Package: Radial, Can, 10mm
footprint CAP AL TH D10 L5 H14.5
pins: 1, 2

## UBX1V471MHL
designator C?, comment 470uF  (value not drawn)
CAP ALUM 470UF 20% 35V RADIAL; Part Number: UBX1V471MHL; Manufacturer: Nichicon; TemperatureRange: -55C ~ 150C; Type: Polar; Ripple Current: 500mA @ 120Hz; Value: 470uF; PartId: 27263; Supplier 1: Digi-Key; Supplier Part Number 1: 493-13061-ND; ComponentLink1Description: Datasheet; ComponentLink1URL: http://nichicon-us.com/english/products/pdfs/e-ubx.pdf; ComponentLink2Description: Digi-Key Listing; ComponentLink2URL: https://www.digikey.com/product-detail/en/nichicon/UBX1V471MHL/493-13061-ND/2597580; Tolerance: 20%; Voltage: 35V; Price: 2.86; Device Package: Radial, Can, 16mm
footprint CAP AL TH D16 L7.5 H33.5
pins: 1, 2

## UBX2A101MHL1TO
designator C?, comment 100uF  (value not drawn)
CAP ALUM 100UF 20% 100V RADIAL; Part Number: UBX2A101MHL1TO; Manufacturer: Nichicon; TemperatureRange: -55C ~ 150C; Type: Polar; Ripple Current: 475mA @ 120Hz; Value: 100uF; PartId: 23731; Supplier 1: Digi-Key; Supplier Part Number 1: 493-13228-3-ND; ComponentLink1Description: Datasheet; ComponentLink1URL: http://nichicon-us.com/english/products/pdfs/e-ubx.pdf; ComponentLink2Description: Digi-Key Listing; ComponentLink2URL: https://www.digikey.com/product-detail/en/nichicon/UBX2A101MHL1TO/493-13228-3-ND/4332859; Tolerance: 20%; Voltage: 100V; Price: 1.4289; Device Package: Radial, Can, 12.5mm
footprint CAP AL TH D12.5 L5 H26.5
pins: 1, 2

## UBX2A221MHL
designator C?, comment 220uF  (value not drawn)
CAP ALUM 220UF 20% 100V RADIAL; Part Number: UBX2A221MHL; Manufacturer: Nichicon; TemperatureRange: -55C ~ 150C; Type: Polar; Ripple Current: 690mA @ 120Hz; Value: 220uF; PartId: 27309; Supplier 1: Digi-Key; Supplier Part Number 1: 493-13062-ND; ComponentLink1Description: Datasheet; ComponentLink1URL: http://nichicon-us.com/english/products/pdfs/e-ubx.pdf; ComponentLink2Description: Digi-Key Listing; ComponentLink2URL: https://www.digikey.com/product-detail/en/nichicon/UBX2A221MHL/493-13062-ND/2597584; Tolerance: 20%; Voltage: 100V; Price: 4.32; Device Package: Radial, Can, 16mm
footprint CAP AL TH D16 L7.5 H33.5
pins: 1, 2

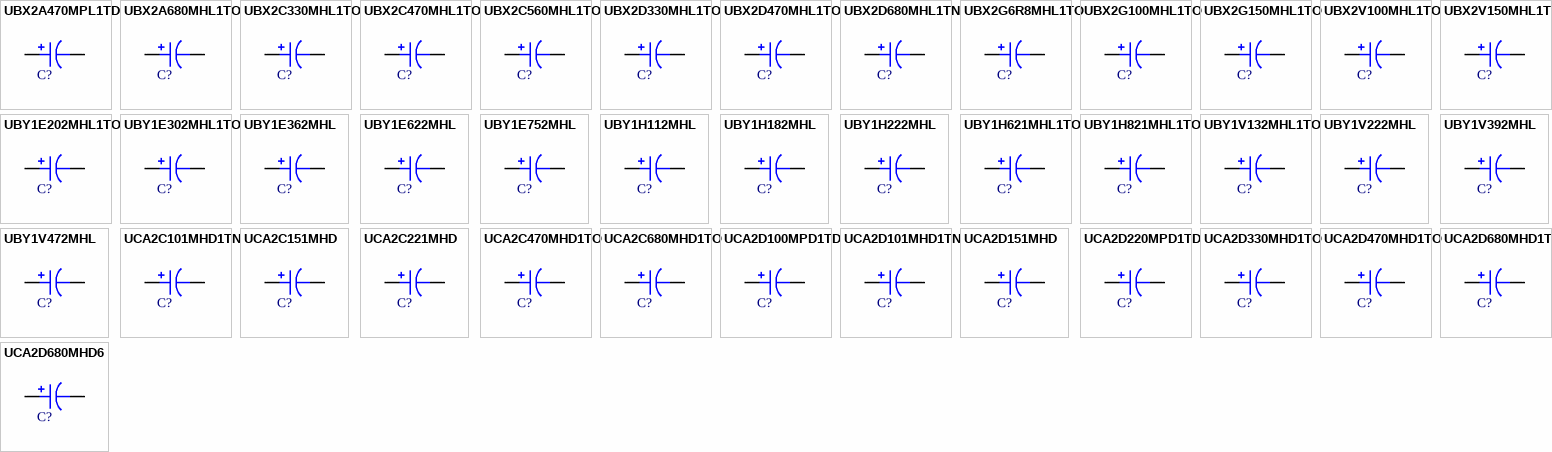
[diagram p61: symbols UBX2A470MPL1TD to UCA2D680MHD6]

## UBX2A470MPL1TD
designator C?, comment 47uF  (value not drawn)
CAP ALUM 47UF 20% 100V RADIAL; Part Number: UBX2A470MPL1TD; Manufacturer: Nichicon; TemperatureRange: -55C ~ 150C; Type: Polar; Ripple Current: 320mA @ 120Hz; Value: 47uF; PartId: 25688; Supplier 1: Digi-Key; Supplier Part Number 1: 493-13096-3-ND; ComponentLink1Description: Datasheet; ComponentLink1URL: http://nichicon-us.com/english/products/pdfs/e-ubx.pdf; ComponentLink2Description: Digi-Key Listing; ComponentLink2URL: https://www.digikey.com/product-detail/en/nichicon/UBX2A470MPL1TD/493-13096-3-ND/4332727; Tolerance: 20%; Voltage: 100V; Price: 0.802; Device Package: Radial, Can, 10mm
footprint CAP AL TH D10 L5 H22
pins: 1, 2

## UBX2A680MHL1TO
designator C?, comment 68uF  (value not drawn)
CAP ALUM 68UF 20% 100V RADIAL; Part Number: UBX2A680MHL1TO; Manufacturer: Nichicon; TemperatureRange: -55C ~ 150C; Type: Polar; Ripple Current: 760mA; Value: 68uF; PartId: 23085; Supplier 1: Digi-Key; Supplier Part Number 1: 493-13232-1-ND; ComponentLink1Description: Datasheet; ComponentLink1URL: http://nichicon-us.com/english/products/pdfs/e-ubx.pdf; ComponentLink2Description: Digi-Key Listing; ComponentLink2URL: https://www.digikey.com/product-detail/en/nichicon/UBX2A680MHL1TO/493-13232-1-ND/4333242; Tolerance: 20%; Voltage: 100V; Price: 0; Device Package: Radial, Can, 12.5mm
footprint CAP AL TH D12.5 L5 H21.5
pins: 1, 2

## UBX2C330MHL1TO
designator C?, comment 33uF  (value not drawn)
CAP ALUM 33UF 20% 160V RADIAL; Part Number: UBX2C330MHL1TO; Manufacturer: Nichicon; TemperatureRange: -40C ~ 150C; Type: Polar; Ripple Current: 230mA; Value: 33uF; PartId: 23077; Supplier 1: Digi-Key; Supplier Part Number 1: 493-13237-1-ND; ComponentLink1Description: Datasheet; ComponentLink1URL: http://nichicon-us.com/english/products/pdfs/e-ubx.pdf; ComponentLink2Description: Digi-Key Listing; ComponentLink2URL: https://www.digikey.com/product-detail/en/nichicon/UBX2C330MHL1TO/493-13237-1-ND/4333247; Tolerance: 20%; Voltage: 160V; Price: 0; Device Package: Radial, Can, 12.5mm
footprint CAP AL TH D12.5 L5 H21.5
pins: 1, 2

## UBX2C470MHL1TO
designator C?, comment 47uF  (value not drawn)
CAP ALUM 47UF 20% 160V RADIAL; Part Number: UBX2C470MHL1TO; Manufacturer: Nichicon; TemperatureRange: -40C ~ 150C; Type: Polar; Ripple Current: 250mA; Value: 47uF; PartId: 23083; Supplier 1: Digi-Key; Supplier Part Number 1: 493-13238-1-ND; ComponentLink1Description: Datasheet; ComponentLink1URL: http://nichicon-us.com/english/products/pdfs/e-ubx.pdf; ComponentLink2Description: Digi-Key Listing; ComponentLink2URL: https://www.digikey.com/product-detail/en/nichicon/UBX2C470MHL1TO/493-13238-1-ND/4333248; Tolerance: 20%; Voltage: 160V; Price: 0; Device Package: Radial, Can, 12.5mm
footprint CAP AL TH D12.5 L5 H21.5
pins: 1, 2

## UBX2C560MHL1TO
designator C?, comment 56uF  (value not drawn)
CAP ALUM 56UF 20% 160V RADIAL; Part Number: UBX2C560MHL1TO; Manufacturer: Nichicon; TemperatureRange: -40C ~ 150C; Type: Polar; Ripple Current: 270mA; Value: 56uF; PartId: 23784; Supplier 1: Digi-Key; Supplier Part Number 1: 493-13239-1-ND; ComponentLink1Description: Datasheet; ComponentLink1URL: http://nichicon-us.com/english/products/pdfs/e-ubx.pdf; ComponentLink2Description: Digi-Key Listing; ComponentLink2URL: https://www.digikey.com/product-detail/en/nichicon/UBX2C560MHL1TO/493-13239-1-ND/4333249; Tolerance: 20%; Voltage: 160V; Price: 3.31; Device Package: Radial, Can, 12.5mm
footprint CAP AL TH D12.5 L5 H26.5
pins: 1, 2

## UBX2D330MHL1TO
designator C?, comment 33uF  (value not drawn)
CAP ALUM 33UF 20% 200V RADIAL; Part Number: UBX2D330MHL1TO; Manufacturer: Nichicon; TemperatureRange: -40C ~ 150C; Type: Polar; Ripple Current: 210mA; Value: 33uF; PartId: 23082; Supplier 1: Digi-Key; Supplier Part Number 1: 493-13244-1-ND; ComponentLink1Description: Datasheet; ComponentLink1URL: http://nichicon-us.com/english/products/pdfs/e-ubx.pdf; ComponentLink2Description: Digi-Key Listing; ComponentLink2URL: https://www.digikey.com/product-detail/en/nichicon/UBX2D330MHL1TO/493-13244-1-ND/4333254; Tolerance: 20%; Voltage: 200V; Price: 0; Device Package: Radial, Can, 12.5mm
footprint CAP AL TH D12.5 L5 H21.5
pins: 1, 2

## UBX2D470MHL1TO
designator C?, comment 47uF  (value not drawn)
CAP ALUM 47UF 20% 200V RADIAL; Part Number: UBX2D470MHL1TO; Manufacturer: Nichicon; TemperatureRange: -40C ~ 150C; Type: Polar; Ripple Current: 250mA; Value: 47uF; PartId: 23785; Supplier 1: Digi-Key; Supplier Part Number 1: 493-13245-1-ND; ComponentLink1Description: Datasheet; ComponentLink1URL: http://nichicon-us.com/english/products/pdfs/e-ubx.pdf; ComponentLink2Description: Digi-Key Listing; ComponentLink2URL: https://www.digikey.com/product-detail/en/nichicon/UBX2D470MHL1TO/493-13245-1-ND/4333255; Tolerance: 20%; Voltage: 200V; Price: 3.31; Device Package: Radial, Can, 12.5mm
footprint CAP AL TH D12.5 L5 H26.5
pins: 1, 2

## UBX2D680MHL1TN
designator C?, comment 68uF  (value not drawn)
CAP ALUM 68UF 20% 200V RADIAL; Part Number: UBX2D680MHL1TN; Manufacturer: Nichicon; TemperatureRange: -40C ~ 150C; Type: Polar; Ripple Current: 290mA @ 120Hz; Value: 68uF; PartId: 26711; Supplier 1: Digi-Key; Supplier Part Number 1: 493-13247-3-ND; ComponentLink1Description: Datasheet; ComponentLink1URL: http://nichicon-us.com/english/products/pdfs/e-ubx.pdf; ComponentLink2Description: Digi-Key Listing; ComponentLink2URL: https://www.digikey.com/product-detail/en/nichicon/UBX2D680MHL1TN/493-13247-3-ND/4332878; Tolerance: 20%; Voltage: 200V; Price: 2.3548; Device Package: Radial, Can, 16mm
footprint CAP AL TH D16 L7.5 H26.5
pins: 1, 2

## UBX2G6R8MHL1TO
designator C?, comment 6.8uF  (value not drawn)
CAP ALUM 6.8UF 20% 400V RADIAL; Part Number: UBX2G6R8MHL1TO; Manufacturer: Nichicon; TemperatureRange: -25C ~ 150C; Type: Polar; Ripple Current: 88mA; Value: 6.8uF; PartId: 23078; Supplier 1: Digi-Key; Supplier Part Number 1: 493-13252-1-ND; ComponentLink1Description: Datasheet; ComponentLink1URL: http://nichicon-us.com/english/products/pdfs/e-ubx.pdf; ComponentLink2Description: Digi-Key Listing; ComponentLink2URL: https://www.digikey.com/product-detail/en/nichicon/UBX2G6R8MHL1TO/493-13252-1-ND/4333262; Tolerance: 20%; Voltage: 400V; Price: 0; Device Package: Radial, Can, 12.5mm
footprint CAP AL TH D12.5 L5 H21.5
pins: 1, 2